# Altium schematic symbol library 18 RESISTORS_THD_AX14_8mm_S.SchLib: 9 symbols
Pins are listed as number, name and electrical type; pins without a type are passive.

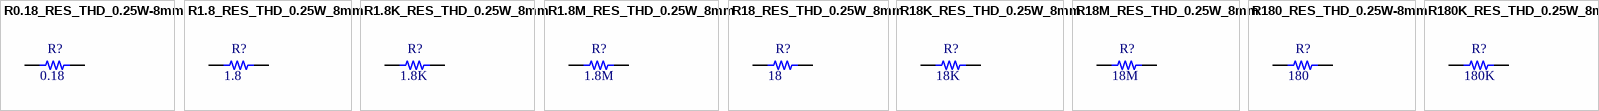
[diagram p0: symbols R0.18_RES_THD_0.25W-8mm to R180K_RES_THD_0.25W_8mm]

## R0.18_RES_THD_0.25W-8mm
designator R?  value 0.18  (hidden comment: *)
RESISTOR_0.18Ohm_THD_0.25W-8mm; Pacakge: THT; Rating: 0.25W; Type: 5%
footprint R0.18_RES_THD_AX14_0.25W (RESISTOR 0.18 Ohm  THD AX14 0.25W Length  8mm)
pins: 1, 2

## R1.8_RES_THD_0.25W_8mm
designator R?  value 1.8  (hidden comment: *)
RESISTOR_1.8Ohm_THD_0.25W-8mm; Pacakge: THT; Rating: 0.25W; Type: 5%
footprint R1.8_RES_THD_AX14_0.25W (RESISTOR 1.8 Ohm  THD AX14 0.25W Length  8mm)
pins: 1, 2

## R1.8K_RES_THD_0.25W_8mm
designator R?  value 1.8K  (hidden comment: *)
RESISTOR_1.8KOhm_THD_0.25W-8mm; Pacakge: THT; Rating: 0.25W; Type: 5%
footprint R1.8K_RES_THD_AX14_0.25W (RESISTOR 1.8K Ohm  THD AX14 0.25W Length  8mm)
pins: 1, 2

## R1.8M_RES_THD_0.25W_8mm
designator R?  value 1.8M  (hidden comment: *)
RESISTOR_1.8MOhm_THD_0.25W-8mm; Pacakge: THT; Rating: 0.25W; Type: 5%
footprint R1.8M_RES_THD_AX14_0.25W (RESISTOR 1.8M Ohm  THD AX14 0.25W Length  8mm)
pins: 1, 2

## R18_RES_THD_0.25W_8mm
designator R?  value 18  (hidden comment: *)
RESISTOR_18Ohm_THD_0.25W-8mm; Pacakge: THT; Rating: 0.25W; Type: 5%; Parameter 1: *
footprint R18_RES_THD_AX14_0.25W (RESISTOR 18 Ohm  THD AX14 0.25W Length  8mm)
pins: 1, 2

## R18K_RES_THD_0.25W_8mm
designator R?  value 18K  (hidden comment: *)
RESISTOR_18KOhm_THD_0.25W-8mm; Pacakge: THT; Rating: 0.25W; Type: 5%
footprint R18K_RES_THD_AX14_0.25W (RESISTOR 18K Ohm  THD AX14 0.25W Length  8mm)
pins: 1, 2

## R18M_RES_THD_0.25W_8mm
designator R?  value 18M  (hidden comment: *)
RESISTOR_18MOhm_THD_0.25W-8mm; Pacakge: THT; Rating: 0.25W; Type: 5%
footprint R18M_RES_THD_AX14_0.25W (RESISTOR 18M Ohm  THD AX14 0.25W Length  8mm)
pins: 1, 2

## R180_RES_THD_0.25W-8mm
designator R?  value 180  (hidden comment: *)
RESISTOR_180Ohm_THD_0.25W-8mm; Pacakge: THT; Rating: 0.25W; Type: 5%; Parameter 1: *
footprint R180_RES_THD_AX14_0.25W (RESISTOR 180 Ohm  THD AX14 0.25W Length  8mm)
pins: 1, 2

## R180K_RES_THD_0.25W_8mm
designator R?  value 180K  (hidden comment: *)
RESISTOR_180KOhm_THD_0.25W-8mm; Pacakge: THT; Rating: 0.25W; Type: 5%
footprint R180K_RES_THD_AX14_0.25W (RESISTOR 180K Ohm  THD AX14 0.25W Length  8mm)
pins: 1, 2